# EAGLE library part DRV134 (library _common)
Texas Instruments AUDIO LINE DRIVER https://www.mouser.ca/ProductDetail/Texas-Instruments/DRV134PA Note: Scheduled for obsolescence and will be discontinued by the manufacturer.
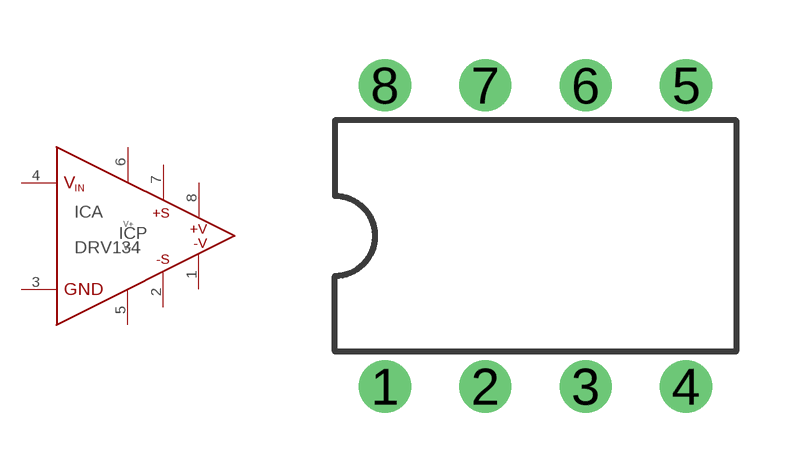
[diagram p8: symbol with the pads of DIL08; footprint DIL08]

Designator prefix IC; gates A=DRV134 P=PWR+-WIDE

## DRV134  [DIL08]
1  A:-V0
2  A:-SENSE
3  A:GND
4  A:VIN
5  P:V-  pwr
6  P:V+  pwr
7  A:+SENSE
8  A:+V0

## Footprint DIL08 (pad centres in mm)
Dual In Line Package
drill 0.813 pad 1.27: 1 -3.81,-3.81; 2 -1.27,-3.81; 3 1.27,-3.81; 4 3.81,-3.81; 5 3.81,3.81; 6 1.27,3.81; 7 -1.27,3.81; 8 -3.81,3.81